# Altium footprint library 5015680607.PcbLib: 1 footprints
Each footprint in its own frame and in the unit in brackets; x right, y up, seen from the top. Pads: shape width x height; smd on the part's side, far side on the other; paste and mask are expansions set on the pad; w line width, h text height; cw(c..) or ccw(c..) is an arc to the next point about the centre after c.
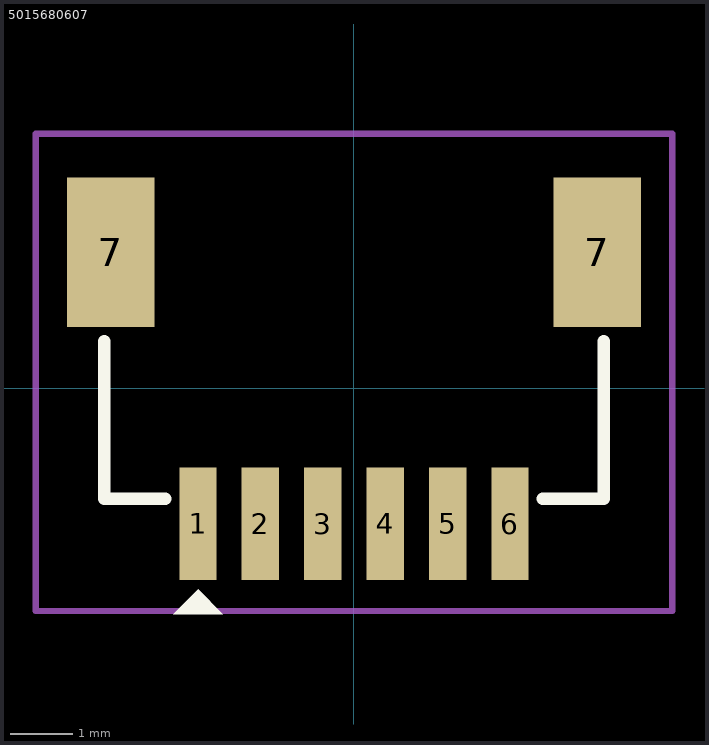
[diagram p0: the footprint, top view; thin cyan lines are the x and y axes]

## 5015680607 [mm]
pads (8):
  rect 0.6x1.8 smd: 1(-2.5,-2.175) 2(-1.5,-2.175) 3(-0.5,-2.175) 4(0.5,-2.175) 5(1.5,-2.175) 6(2.5,-2.175)
  rect 1.4x2.4 smd: 7(-3.9,2.175) 7(3.9,2.175)
Top Overlay:
  region: -2.1,-3.625 -2.9,-3.625 -2.5,-3.225
  lines w0.2: -4,0.75 -4,-1.775 -3.025,-1.775 ; 3.025,-1.775 4,-1.775 4,0.75
Top Courtyard:
  lines w0.1: -5.1,0.975 -5.1,-3.575 ; -2.8,-3.575 -5.1,-3.575 ; 4,4.075 -5.1,4.075 ; 5.1,0.975 5.1,-3.575 ; -5.1,-3.575 5.1,-3.575 ; -5.1,-3.575 -5.1,4.075 ; -5.1,4.075 5.1,4.075 5.1,-3.575
3D body "5015680607.stp": height 4.7, standoff 0, extent -4,-2.325 4,3.575